# Altium footprint library footprints.PCBLIB: 199 footprints (part 5 of 13)
Each footprint in its own frame and in the unit in brackets; x right, y up, seen from the top. Pads: shape width x height; smd on the part's side, far side on the other; paste and mask are expansions set on the pad; w line width, h text height; cw(c..) or ccw(c..) is an arc to the next point about the centre after c.
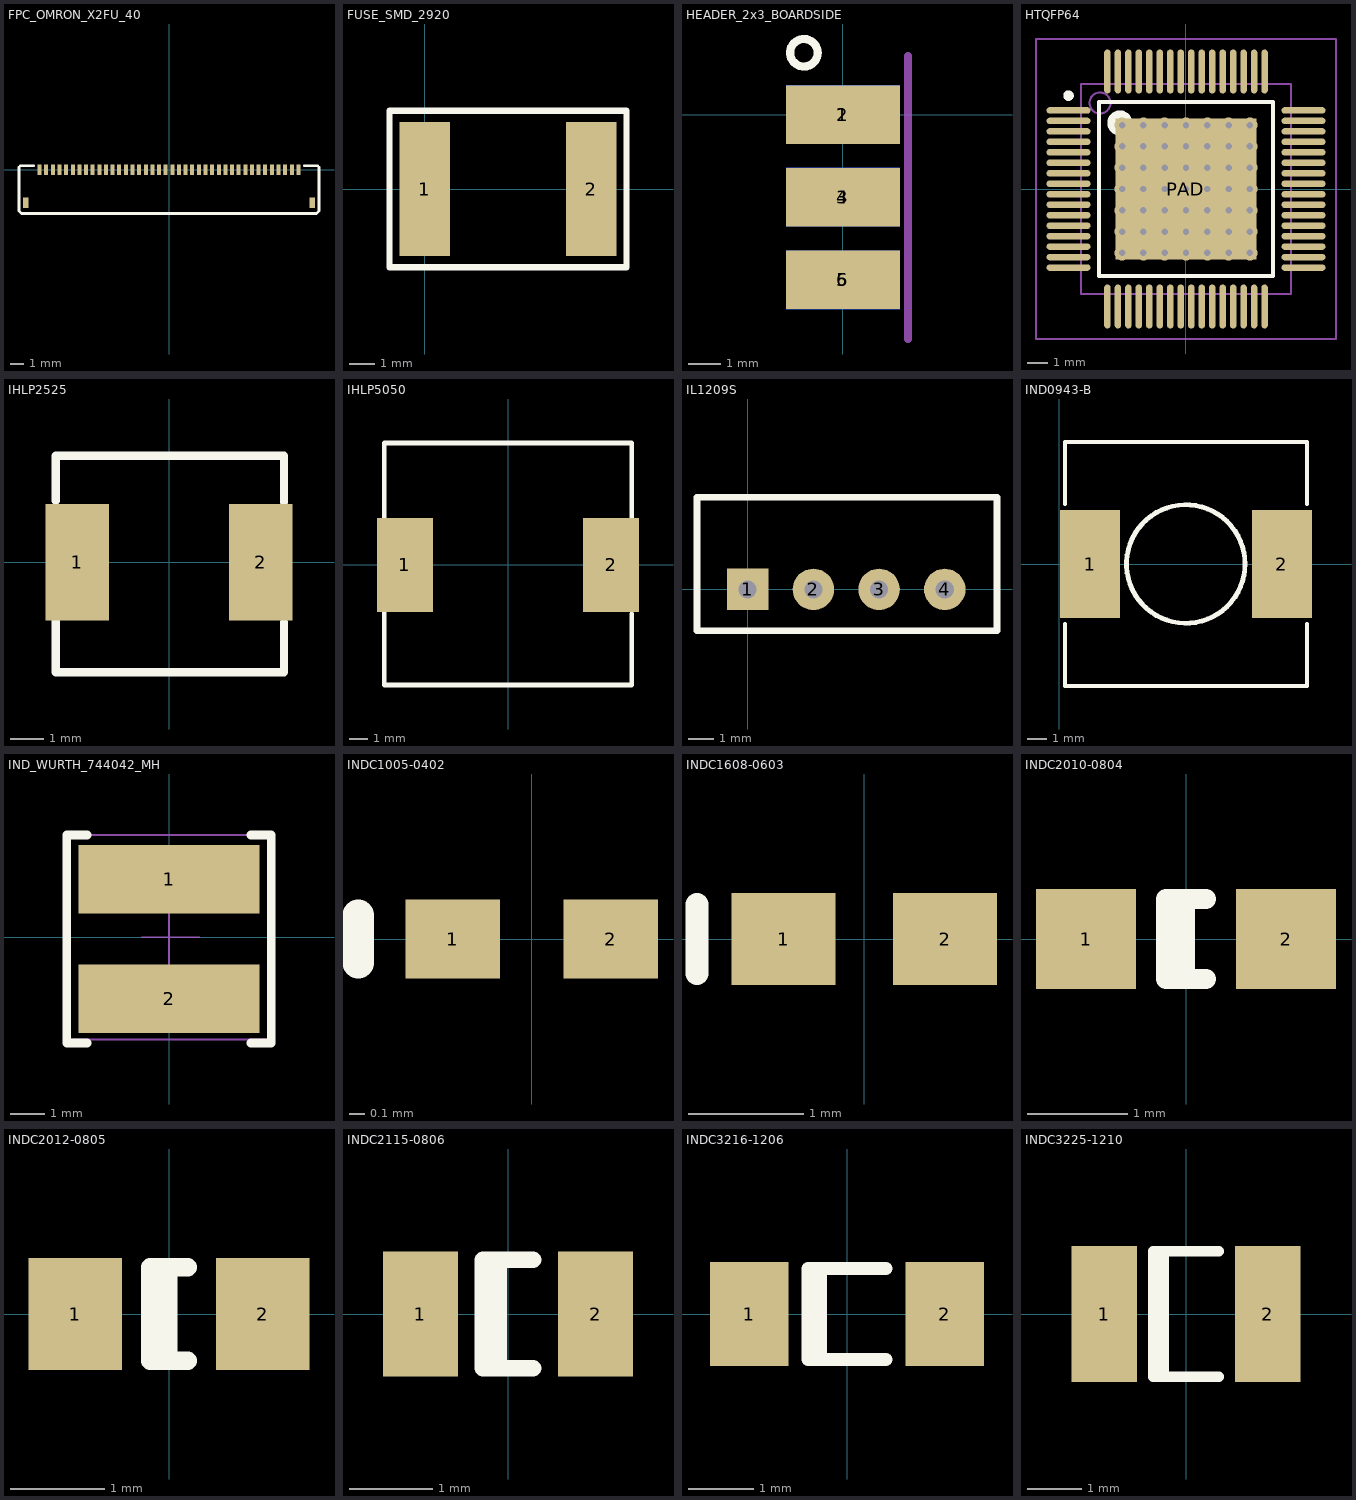
[diagram p4: the footprints below, top view; thin cyan lines are the x and y axes]

## FPC_OMRON_X2FU_40 [mm]
height 1
pads (42):
  rect 0.4x0.8 smd: 0(-10.8,-2.5) 0(10.8,-2.5)
  rect 0.3x0.8 smd: 1(-9.75,0) 2(-9.25,0) 3(-8.75,0) 4(-8.25,0) 5(-7.75,0) 6(-7.25,0) 7(-6.75,0) 8(-6.25,0) 9(-5.75,0) 10(-5.25,0) 11(-4.75,0) 12(-4.25,0) 13(-3.75,0) 14(-3.25,0) 15(-2.75,0) 16(-2.25,0) 17(-1.75,0) 18(-1.25,0) 19(-0.75,0) 20(-0.25,0) 21(0.25,0) 22(0.75,0) 23(1.25,0) 24(1.75,0) 25(2.25,0) 26(2.75,0) 27(3.25,0) 28(3.75,0) 29(4.25,0) 30(4.75,0) 31(5.25,0) 32(5.75,0) 33(6.25,0) 34(6.75,0) 35(7.25,0) 36(7.75,0) 37(8.25,0) 38(8.75,0) 39(9.25,0) 40(9.75,0)
Top Overlay:
  lines w0.2: -10.2,0.3 -11.2,0.3 -11.3,0.2 -11.3,-3.1 -11.1,-3.3 11.1,-3.3 11.3,-3.1 11.3,0.2 11.2,0.3 10.2,0.3

## FUSE_SMD_2920 [mm]
pads (2):
  rect 2x5.3 smd: 1(0,0) 2(6.6,0)
Top Overlay:
  lines w0.254: -1.4,-3.1 8,-3.1 8,3.1 -1.4,3.1 -1.4,-3.1

## HEADER_2x3_BOARDSIDE [mm]
pads (6):
  rect 3.5x1.8 smd: 1(0,0) 3(0,-2.54) 5(0,-5.08)
  rect 3.5x1.8 smd far side: 2(0,0) 4(0,-2.54) 6(0,-5.08)
Top Overlay:
  circle w0.254: c-1.2,1.9 r0.424
Mechanical 1:
  lines w0.254: 2,-6.9 2,1.8

## HTQFP64 [mm]
pads (65):
  oval 2.1x0.3 smd: 1(-5.6,3.75) 2(-5.6,3.25) 3(-5.6,2.75) 4(-5.6,2.25) 5(-5.6,1.75) 6(-5.6,1.25) 7(-5.6,0.75) 8(-5.6,0.25) 9(-5.6,-0.25) 10(-5.6,-0.75) 11(-5.6,-1.25) 12(-5.6,-1.75) 13(-5.6,-2.25) 14(-5.6,-2.75) 15(-5.6,-3.25) 16(-5.6,-3.75) 33(5.6,-3.75) 34(5.6,-3.25) 35(5.6,-2.75) 36(5.6,-2.25) 37(5.6,-1.75) 38(5.6,-1.25) 39(5.6,-0.75) 40(5.6,-0.25) 41(5.6,0.25) 42(5.6,0.75) 43(5.6,1.25) 44(5.6,1.75) 45(5.6,2.25) 46(5.6,2.75) 47(5.6,3.25) 48(5.6,3.75)
  oval 0.3x2.1 smd: 17(-3.75,-5.6) 18(-3.25,-5.6) 19(-2.75,-5.6) 20(-2.25,-5.6) 21(-1.75,-5.6) 22(-1.25,-5.6) 23(-0.75,-5.6) 24(-0.25,-5.6) 25(0.25,-5.6) 26(0.75,-5.6) 27(1.25,-5.6) 28(1.75,-5.6) 29(2.25,-5.6) 30(2.75,-5.6) 31(3.25,-5.6) 32(3.75,-5.6) 49(3.75,5.6) 50(3.25,5.6) 51(2.75,5.6) 52(2.25,5.6) 53(1.75,5.6) 54(1.25,5.6) 55(0.75,5.6) 56(0.25,5.6) 57(-0.25,5.6) 58(-0.75,5.6) 59(-1.25,5.6) 60(-1.75,5.6) 61(-2.25,5.6) 62(-2.75,5.6) 63(-3.25,5.6) 64(-3.75,5.6)
  rect 6.7x6.7 smd: PAD(0,0)
via 0,0 diameter 0.711 hole 0.305
via 0,1.016 diameter 0.711 hole 0.305
via 0,2.032 diameter 0.711 hole 0.305
via 0,3.048 diameter 0.711 hole 0.305
via -1.016,3.048 diameter 0.711 hole 0.305
via -1.016,2.032 diameter 0.711 hole 0.305
via -1.016,1.016 diameter 0.711 hole 0.305
via -1.016,0 diameter 0.711 hole 0.305
via -2.032,0 diameter 0.711 hole 0.305
via -2.032,1.016 diameter 0.711 hole 0.305
via -2.032,2.032 diameter 0.711 hole 0.305
via -2.032,3.048 diameter 0.711 hole 0.305
via -3.048,3.048 diameter 0.711 hole 0.305
via -3.048,2.032 diameter 0.711 hole 0.305
via -3.048,1.016 diameter 0.711 hole 0.305
via -3.048,0 diameter 0.711 hole 0.305
via -3.048,-1.016 diameter 0.711 hole 0.305
via -3.048,-2.032 diameter 0.711 hole 0.305
via -3.048,-3.048 diameter 0.711 hole 0.305
via -2.032,-3.048 diameter 0.711 hole 0.305
via -2.032,-2.032 diameter 0.711 hole 0.305
via -2.032,-1.016 diameter 0.711 hole 0.305
via -1.016,-1.016 diameter 0.711 hole 0.305
via -1.016,-2.032 diameter 0.711 hole 0.305
via -1.016,-3.048 diameter 0.711 hole 0.305
via 0,-3.048 diameter 0.711 hole 0.305
via 0,-2.032 diameter 0.711 hole 0.305
via 0,-1.016 diameter 0.711 hole 0.305
via 1.016,-1.016 diameter 0.711 hole 0.305
via 1.016,-2.032 diameter 0.711 hole 0.305
via 1.016,-3.048 diameter 0.711 hole 0.305
via 2.032,-3.048 diameter 0.711 hole 0.305
via 2.032,-2.032 diameter 0.711 hole 0.305
via 2.032,-1.016 diameter 0.711 hole 0.305
via 3.048,-1.016 diameter 0.711 hole 0.305
via 3.048,-2.032 diameter 0.711 hole 0.305
via 3.048,-3.048 diameter 0.711 hole 0.305
via 3.048,0 diameter 0.711 hole 0.305
via 1.016,0 diameter 0.711 hole 0.305
via 2.032,0 diameter 0.711 hole 0.305
via 2.032,1.016 diameter 0.711 hole 0.305
via 1.016,1.016 diameter 0.711 hole 0.305
via 3.048,1.016 diameter 0.711 hole 0.305
via 3.048,2.032 diameter 0.711 hole 0.305
via 2.032,2.032 diameter 0.711 hole 0.305
via 1.016,2.032 diameter 0.711 hole 0.305
via 1.016,3.048 diameter 0.711 hole 0.305
via 2.032,3.048 diameter 0.711 hole 0.305
via 3.048,3.048 diameter 0.711 hole 0.305
Top Overlay:
  circle w0.6: c-3.15,3.15 r0.3
  circle w0.25: c-5.6,4.45 r0.125
  lines w0.2: -4.15,-4.15 4.15,-4.15 4.15,4.15 -4.15,4.15 -4.15,-4.15
Mechanical 13:
  circle w0.1: c-4.1,4.1 r0.5
  lines w0.1: -5,-5 5,-5 5,5 -5,5 -5,-5
Mechanical 15:
  lines w0.1: -0.5,0 0.5,0 ; 0,-0.5 0,0.5 ; -7.15,-7.15 7.15,-7.15 7.15,7.15 -7.15,7.15 -7.15,-7.15
3D body: height 1.6, standoff 0, extent -5,-5 5,5

## IHLP2525 [mm]
pads (2):
  rect 1.9x3.5 smd: 1(-2.75,0) 2(2.75,0)
Top Overlay:
  lines w0.254: -3.4,-1.75 -3.4,-3.3 3.1,-3.3 3.45,-3.3 3.45,-1.8 ; -3.4,1.85 -3.4,3.2 3.45,3.2 3.45,1.8

## IHLP5050 [mm]
pads (2):
  rect 3x5 smd: 1(-5.5,0) 2(5.5,0)
Top Overlay:
  lines w0.254: -6.6,-2.55 -6.6,-6.4 6.6,-6.4 6.6,-2.6 ; -6.6,2.55 -6.6,6.5 6.6,6.5 6.6,2.55

## IL1209S [mm]
pads (4):
  rect 1.6x1.6 hole 0.7: 1(0,0)
  round 1.6 hole 0.7: 2(2.54,0) 3(5.08,0) 4(7.62,0)
Top Overlay:
  lines w0.254: -1.96,-1.6 9.64,-1.6 9.64,3.56 -1.96,3.56 -1.96,-1.6

## IND0943-B [mm]
pads (2):
  rect 3.1x5.6 smd: 1(1.6,0) 2(11.5,0)
Top Overlay:
  circle w0.254: c6.539,0 r3.061
  lines w0.2: 0.3,-3.1 0.3,-6.3 12.8,-6.3 12.8,-3.1 ; 0.3,3.1 0.3,6.1 ; 0.3,6 0.3,6.3 12.8,6.3 12.8,3.1

## IND_WURTH_744042_MH [mm]
height 2
pads (2):
  rect 5.3x2 smd: 1(0,1.7) 2(0,-1.8)
Top Overlay:
  lines w0.254: -3,2.6 -3,3 -2.4,3 ; -3,2.7 -3,-3.1 -2.4,-3.1 ; 2.4,-3.1 3,-3.1 3,-2.7 ; 2.4,3 3,3 3,-2.8
Mechanical 15:
  lines w0.05: -0.8,0 0.6,0 ; 0,-0.9 0,0.9 ; 0.5,0 0.9,0 ; -3,-3 3,-3 3,3 -3,3 -3,-3

## INDC1005-0402 [mm] "Chip Inductor; Body 1 x 0.5 mm (LxW typ)"
height 0.55
pads (2):
  rect 0.6x0.5 smd: 1(-0.5,0) 2(0.5,0)
Top Overlay:
  lines w0.2: -1.1,-0.15 -1.1,0.15

## INDC1608-0603 [mm] "Chip Inductor; Body 1.6 x 0.8 mm (LxW typ)"
height 0.71
pads (2):
  rect 0.9x0.8 smd: 1(-0.7,0) 2(0.7,0)
Top Overlay:
  lines w0.2: -1.45,-0.3 -1.45,0.3

## INDC2010-0804 [mm] "Chip Inductor; Body 2.0 x 1.2 mm (LxW typ)"
height 1.2
pads (2):
  rect 1x1 smd: 1(-1,0) 2(1,0)
Top Overlay:
  lines w0.2: -0.01,-0.4 -0.01,0.4 ; 0.2,-0.4 -0.2,-0.4 -0.2,0.4 0.2,0.4

## INDC2012-0805 [mm] "Chip Inductor; Body 2 x 1.2 mm (LxW typ)"
height 1.1
pads (2):
  rect 1x1.2 smd: 1(-1,0) 2(1,0)
Top Overlay:
  lines w0.2: -0.01,-0.5 -0.01,0.5 ; 0.2,-0.5 -0.2,-0.5 -0.2,0.5 0.2,0.5

## INDC2115-0806 [mm] "Chip Inductor; Body 2.1 x 1.5 mm (LxW typ)"
height 1.04
pads (2):
  rect 0.9x1.5 smd: 1(-1.05,0) 2(1.05,0)
Top Overlay:
  lines w0.2: -0.11,-0.65 -0.11,0.65 ; 0.3,-0.65 -0.3,-0.65 -0.3,0.65 0.3,0.65

## INDC3216-1206 [mm] "Chip Inductor; Body 3.2 x 1.6 mm (LxW typ)"
height 1.3
pads (2):
  rect 1.2x1.6 smd: 1(-1.5,0) 2(1.5,0)
Top Overlay:
  lines w0.2: -0.41,-0.7 -0.41,0.7 ; 0.6,-0.7 -0.6,-0.7 -0.6,0.7 0.6,0.7

## INDC3225-1210 [mm] "Chip Inductor; Body 3.2 x 2.5 mm (LxW typ)"
height 1.5
pads (2):
  rect 1.2x2.5 smd: 1(-1.5,0) 2(1.5,0)
Top Overlay:
  lines w0.2: -0.41,-1.15 -0.41,1.15 ; 0.6,-1.15 -0.6,-1.15 -0.6,1.15 0.6,1.15